# EAGLE library part AVRISP (library AudioStick)
Atmel AVR 6pin ISP header
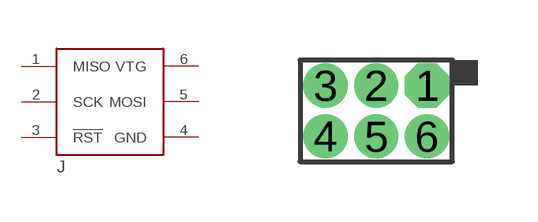
[diagram p1: symbol with the pads of 2X3-1.27; footprint 2X3-1.27]

Designator prefix J

## AVRISP  [2X3-1.27]
1  MISO
2  SCK
3  !RST
4  GND
5  MOSI
6  VTG

## Footprint 2X3-1.27 (pad centres in mm)
drill 0.6 octagon: 1 1.27,1.27
drill 0.6: 2 0,1.27; 3 -1.27,1.27; 4 -1.27,0; 5 0,0; 6 1.27,0